# EAGLE library part MCP3426 (library Ava)
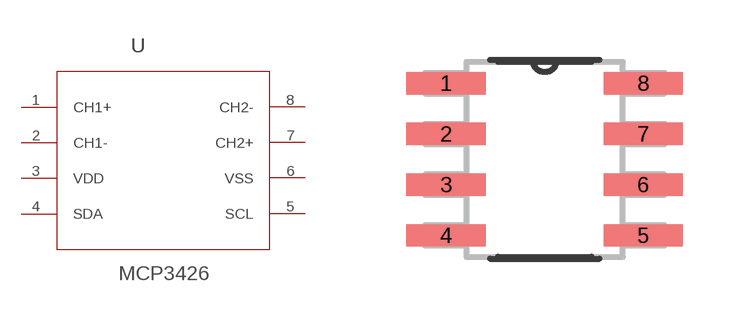
[diagram p49: symbol with the pads of SOIC127P600X175-8N; footprint SOIC127P600X175-8N]

Designator prefix -

## MCP3426  [SOIC127P600X175-8N]
1  CH1+  pwr
2  CH1-  in
3  VDD  in
4  SDA  in
5  SCL  out
6  VSS  pwr
7  CH2+  in
8  CH2-  in

## Footprint SOIC127P600X175-8N (pad centres in mm)
smd 1.981 x 0.559: 1 -2.464,1.905; 2 -2.464,0.635; 3 -2.464,-0.635; 4 -2.464,-1.905; 5 2.464,-1.905; 6 2.464,-0.635; 7 2.464,0.635; 8 2.464,1.905